# EAGLE library part MAX32664GTGC+T (library MAX32664GTGC+T)
Maxim SENSOR HUB W/ SPO2 & HR ALGORITHMS Source: Datasheet <https://pdfserv.maximintegrated.com/en/ds/MAX32664.pdf>
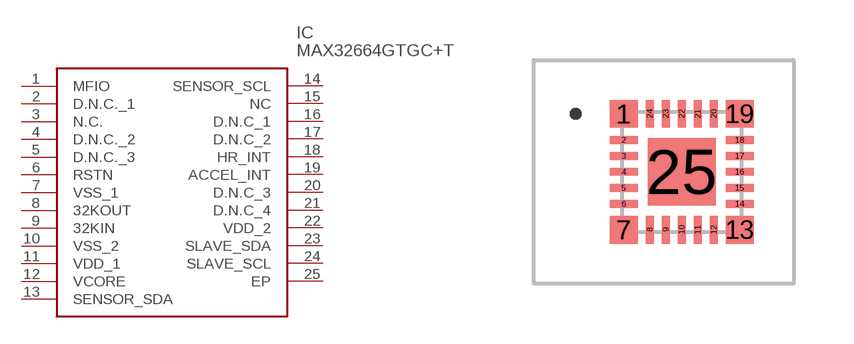
[diagram p0: symbol with the pads of MAX32664GTGC; footprint MAX32664GTGC]

Designator prefix IC

## MAX32664GTGC+T (Description: Maxim SENSOR HUB W/ SPO2 & HR ALGORITHMS; Height: 0.8mm; Manufacturer_Name: Analog Devices; Manufacturer_Part_Number: MAX32664GTGC+T; Mouser_Part_Number: 700-MAX32664GTGC+T; Mouser_Price-Stock: https://www.mouser.co.uk/ProductDetail/Analog-Devices-Maxim-Integrated/MAX32664GTGC%2bT?qs=vmHwEFxEFR%2FOyexmbdPM9g%3D%3D)  [MAX32664GTGC]
1  MFIO
2  D.N.C._1
3  N.C.  nc
4  D.N.C._2
5  D.N.C._3
6  RSTN
7  VSS_1
8  32KOUT
9  32KIN
10  VSS_2
11  VDD_1
12  VCORE
13  SENSOR_SDA
14  SENSOR_SCL
15  NC  nc
16  D.N.C_1
17  D.N.C_2
18  HR_INT
19  ACCEL_INT
20  D.N.C_3
21  D.N.C_4
22  VDD_2
23  SLAVE_SDA
24  SLAVE_SCL
25  EP

## Footprint MAX32664GTGC (pad centres in mm)
T2433 +2C
smd 0.7 x 0.7: 1 -1.45,1.45; 7 -1.45,-1.45; 13 1.45,-1.45; 19 1.45,1.45
smd 0.7 x 0.2: 2 -1.45,0.8; 3 -1.45,0.4; 4 -1.45,0; 5 -1.45,-0.4; 6 -1.45,-0.8; 14 1.45,-0.8; 15 1.45,-0.4; 16 1.45,0; 17 1.45,0.4; 18 1.45,0.8
smd 0.2 x 0.7: 8 -0.8,-1.45; 9 -0.4,-1.45; 10 0,-1.45; 11 0.4,-1.45; 12 0.8,-1.45; 20 0.8,1.45; 21 0.4,1.45; 22 0,1.45; 23 -0.4,1.45; 24 -0.8,1.45
smd 1.7 x 1.7: 25 0,0